# EAGLE library part HEF4052 (library work)
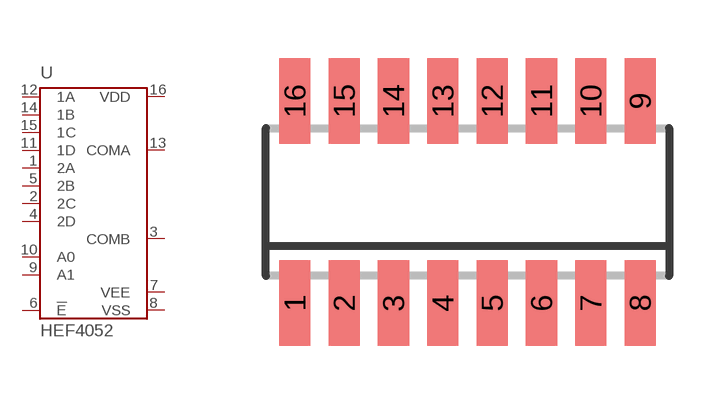
[diagram p57: symbol with the pads of SOIC16; footprint SOIC16]

Designator prefix U

## HEF4052  [SOIC16]
1  2A
2  2C
3  COMB
4  2D
5  2B
6  !E
7  VEE
8  VSS
9  A1
10  A0
11  1D
12  1A
13  COMA
14  1B
15  1C
16  VDD

## Footprint SOIC16 (pad centres in mm)
smd 0.8 x 2.2: 1 -4.445,-2.6; 2 -3.175,-2.6; 3 -1.905,-2.6; 4 -0.635,-2.6; 5 0.635,-2.6; 6 1.905,-2.6; 7 3.175,-2.6; 8 4.445,-2.6; 9 4.445,2.6; 10 3.175,2.6; 11 1.905,2.6; 12 0.635,2.6; 13 -0.635,2.6; 14 -1.905,2.6; 15 -3.175,2.6; 16 -4.445,2.6